# Altium schematic symbol library L78S10CV.Schlib: 1 symbol
Pins are listed as number, name and electrical type; pins without a type are passive.

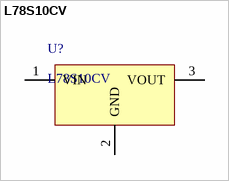
[diagram p0: symbol L78S10CV]

## L78S10CV
designator U?
Linear Voltage Regulator IC Positive Fixed 1 Output 2A TO-220
pins: 1 VIN, 2 GND, 3 VOUT